# EAGLE library part 219-09* (library switch-dil-rp)
Surface Mount DIP Switch Series 219 SMT CTS Electronic Components Sourc: www.ctscorp.com
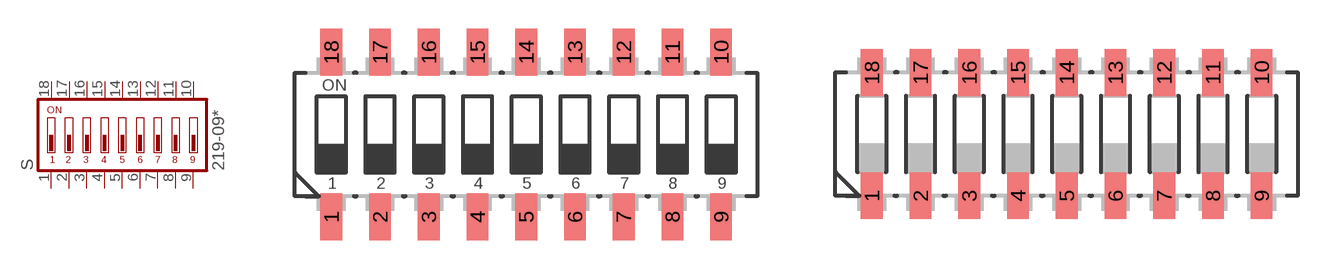
[diagram p61: symbol with the pads of CTS-219-09; footprints CTS-219-09, CTS-219-09J]

Designator prefix S

## 219-09 (OC_FARNELL: unknown; OC_NEWARK: unknown)  [CTS-219-09]
1  1  pas
2  2  pas
3  3  pas
4  4  pas
5  5  pas
6  6  pas
7  7  pas
8  8  pas
9  9  pas
10  10  pas
11  11  pas
12  12  pas
13  13  pas
14  14  pas
15  15  pas
16  16  pas
17  17  pas
18  18  pas

## 219-09J (OC_FARNELL: unknown; OC_NEWARK: unknown)  [CTS-219-09J]
Pads as for CTS-219-09

## Footprint CTS-219-09 (pad centres in mm)
Surface Mount DIP Switch Series 219 SMT CTS Electronic Components Sourc: www.ctscorp.com
smd 1.13 x 2.44: 1 -10.16,-4.3; 2 -7.62,-4.3; 3 -5.08,-4.3; 4 -2.54,-4.3; 5 0,-4.3; 6 2.54,-4.3; 7 5.08,-4.3; 8 7.62,-4.3; 9 10.16,-4.3; 10 10.16,4.3; 11 7.62,4.3; 12 5.08,4.3; 13 2.54,4.3; 14 0,4.3; 15 -2.54,4.3; 16 -5.08,4.3; 17 -7.62,4.3; 18 -10.16,4.3

## Footprint CTS-219-09J (pad centres in mm)
Surface Mount DIP Switch Series 219 SMT "J" Bend CTS Electronic Components Sourc: www.ctscorp.com
smd 1.13 x 2.44: 1 -10.16,-3.215; 2 -7.62,-3.215; 3 -5.08,-3.215; 4 -2.54,-3.215; 5 0,-3.215; 6 2.54,-3.215; 7 5.08,-3.215; 8 7.62,-3.215; 9 10.16,-3.215; 10 10.16,3.215; 11 7.62,3.215; 12 5.08,3.215; 13 2.54,3.215; 14 0,3.215; 15 -2.54,3.215; 16 -5.08,3.215; 17 -7.62,3.215; 18 -10.16,3.215